# EAGLE library part NRF51822 (library GRITSBot)
nRF51822 IC SOC 2.4GHZ 128K FLASH 48QFN with Bluetooth v4.0, Low Energy Frequency: 2.4GHz Data Rate (Max): 2Mbps Modulation or Protocol: Bluetooth v4.0, Low Energy Power - Output: 4dBm Sensitivity: -96dBm Voltage - Supply: 1.8 V ~ 3.6 V Current - Receiving: 13.4mA Current - Transmitting: 16mA Data Interface: PCB, Surface Mount Memory Size: 128kB Flash, 16kB RAM Antenna Connector: PCB, Surface Mount Operating Temperature: -25°C ~ 75°C Package / Case: 48-VFQFN Exposed Pad http://www.digikey.com/product-detail/en/NRF51822-QFAB-R7/1490-1032-2-ND/4626396
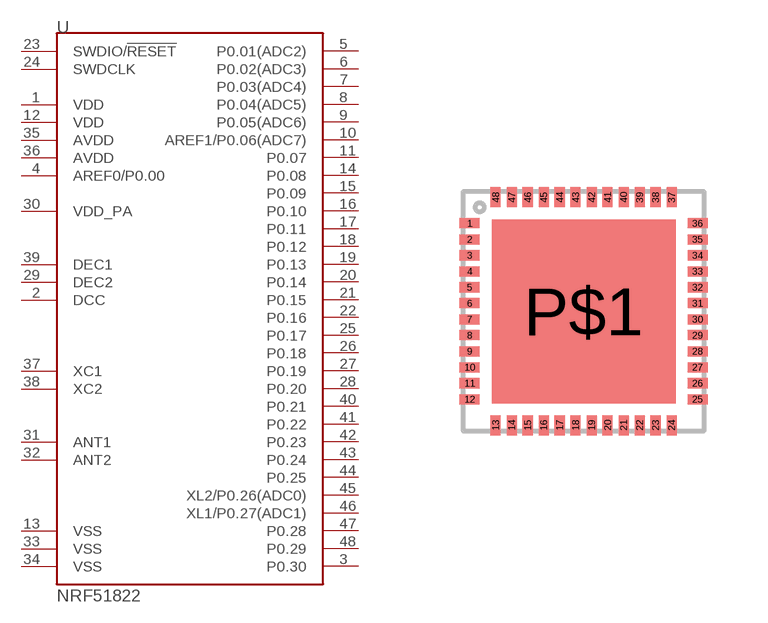
[diagram p19: symbol with the pads of QFN48; footprint QFN48]

Designator prefix -

## NRF51822  [QFN48]
1  VDD
2  DCC
3  P0.30
4  AREF0/P0.00
5  P0.01(ADC2)
6  P0.02(ADC3)
7  P0.03(ADC4)
8  P0.04(ADC5)
9  P0.05(ADC6)
10  AREF1/P0.06(ADC7)
11  P0.07
12  VDD
13  VSS
14  P0.08
15  P0.09
16  P0.10
17  P0.11
18  P0.12
19  P0.13
20  P0.14
21  P0.15
22  P0.16
23  SWDIO/!RESET
24  SWDCLK
25  P0.17
26  P0.18
27  P0.19
28  P0.20
29  DEC2
30  VDD_PA
31  ANT1
32  ANT2
33  VSS
34  VSS
35  AVDD
36  AVDD
37  XC1
38  XC2
39  DEC1
40  P0.21
41  P0.22
42  P0.23
43  P0.24
44  P0.25
45  XL2/P0.26(ADC0)
46  XL1/P0.27(ADC1)
47  P0.28
48  P0.29

## Footprint QFN48 (pad centres in mm)
smd 0.5 x 0.25: 1 -2.85,2.2; 2 -2.85,1.8; 3 -2.85,1.4; 4 -2.85,1; 5 -2.85,0.6; 6 -2.85,0.2; 7 -2.85,-0.2; 8 -2.85,-0.6; 9 -2.85,-1; 10 -2.85,-1.4; 11 -2.85,-1.8; 12 -2.85,-2.2; 25 2.85,-2.2; 26 2.85,-1.8; 27 2.85,-1.4; 28 2.85,-1; 29 2.85,-0.6; 30 2.85,-0.2; 31 2.85,0.2; 32 2.85,0.6; 33 2.85,1; 34 2.85,1.4; 35 2.85,1.8; 36 2.85,2.2
smd 0.25 x 0.5: 13 -2.2,-2.85; 14 -1.8,-2.85; 15 -1.4,-2.85; 16 -1,-2.85; 17 -0.6,-2.85; 18 -0.2,-2.85; 19 0.2,-2.85; 20 0.6,-2.85; 21 1,-2.85; 22 1.4,-2.85; 23 1.8,-2.85; 24 2.2,-2.85; 37 2.2,2.85; 38 1.8,2.85; 39 1.4,2.85; 40 1,2.85; 41 0.6,2.85; 42 0.2,2.85; 43 -0.2,2.85; 44 -0.6,2.85; 45 -1,2.85; 46 -1.4,2.85; 47 -1.8,2.85; 48 -2.2,2.85
smd 4.6 x 4.6: P$1 0,0